# Altium footprint library S1B.PcbLib: 1 footprints
Each footprint in its own frame and in the unit in brackets; x right, y up, seen from the top. Pads: shape width x height; smd on the part's side, far side on the other; paste and mask are expansions set on the pad; w line width, h text height; cw(c..) or ccw(c..) is an arc to the next point about the centre after c.
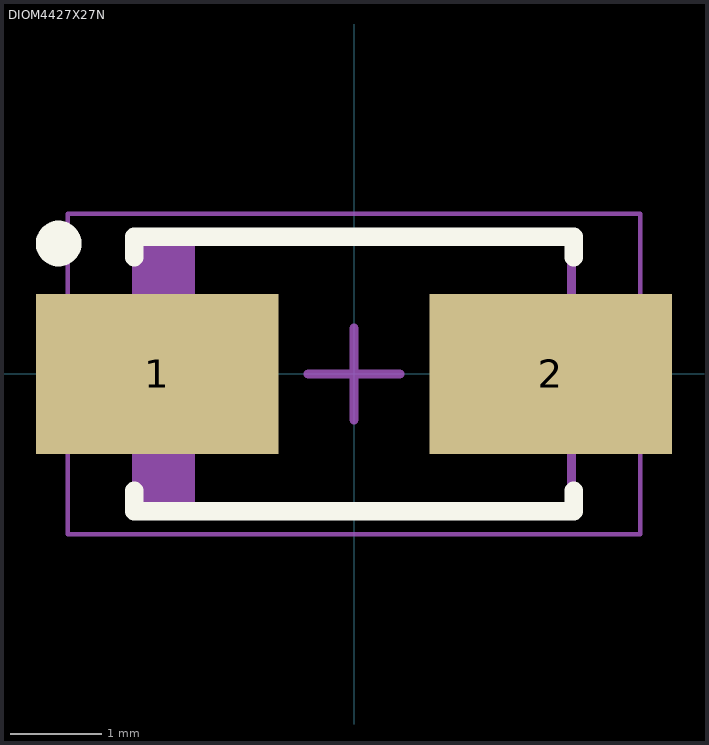
[diagram p0: the footprint, top view; thin cyan lines are the x and y axes]

## DIOM4427X27N [mm] "Molded Diode, 2-Leads, Body 4.38x2.73mm, IPC Medium Density"
height 2.7
pads (2):
  rect 2.65x1.75 smd: 1(-2.15,0) 2(2.15,0)
Top Overlay:
  circle w0.25: c-3.225,1.425 r0.125
  lines w0.2: -2.4,-1.275 -2.4,-1.5 2.4,-1.5 2.4,-1.275 ; -2.4,1.275 -2.4,1.5 2.4,1.5 2.4,1.275
Mechanical 13:
  rectangle: -2.375,-1.475 -1.736,1.475
  lines w0.1: -2.375,-1.475 2.375,-1.475 2.375,1.475 -2.375,1.475 -2.375,-1.475
Mechanical 15:
  lines w0.05: -3.125,-1.75 3.125,-1.75 3.125,1.75 -3.125,1.75 -3.125,-1.75
  lines w0.1: -0.5,0 0.5,0 ; 0,-0.5 0,0.5
3D body "DIOM4427X27N.step": height 2.7, standoff 0, extent -2.595,-1.475 2.595,1.475